# Altium schematic symbol library WCAP-ASNP.SchLib: 55 symbols (part 1 of 2)
Pins are listed as number, name and electrical type; pins without a type are passive.

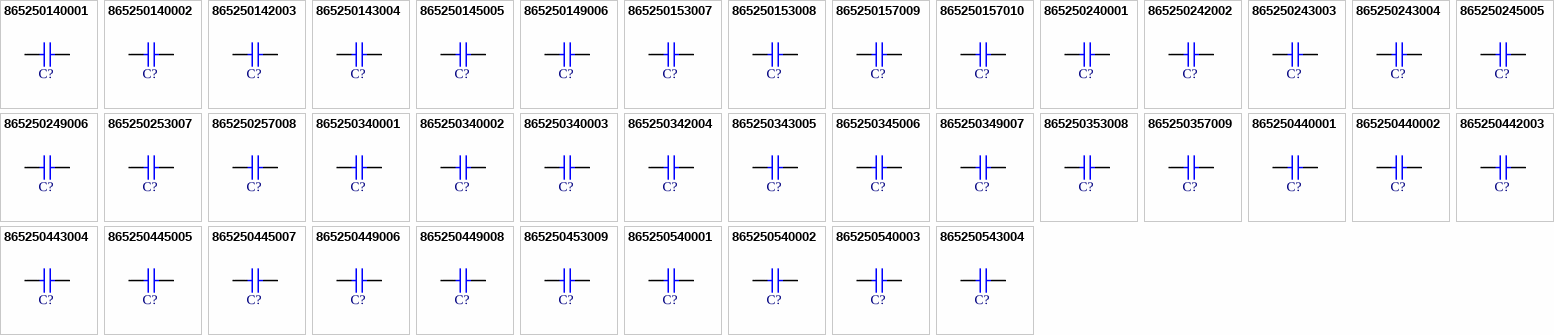
[diagram p0: symbols 865250140001 to 865250543004]

## 865250140001
designator C?, comment 10µF  (value not drawn)
WCAP-ASNP Aluminum Electrolytic Capacitor, V-Chip, SMT, D4 x H5.5mm, 10µF, 6.3V; Manufacturer Part Number: 865250140001; Manufacturer: Wurth Elektronik; Capacitance Tolerance: +/-20%; Dissipation Factor: 24%; Endurance: 2000h; Leakage Current: 10µA; Ripple Current: 15mA; Technical Reference: ASBB055100M6R3DVCTAB000; Category: Aluminum Electrolytic Capacitors; Match Code: WCAP-ASNP; ComponentLink1Description: Website Link; ComponentLink1URL: https://www.we-online.com/redexpert/article/865250140001?ad; ComponentLink2Description: Datasheet Link; ComponentLink2URL: https://www.we-online.com/redexpert/spec/865250140001?ad; Mount: Surface Mount; Operating Temperature Max: 85°C; Operating Temperature Min: -40°C; Packaging: Tape and Reel; Case/Size Code: D4 x H5.5mm; Height: 5.5mm; Diameter: 4mm; Capacitance: 10µF; Rated Voltage (DC): 6.3V
footprint WCAP-ASNP_D4H5.5
simulation model 865250140001_10uF
pins: 1, 2

## 865250140002
designator C?, comment 22µF  (value not drawn)
WCAP-ASNP Aluminum Electrolytic Capacitor, V-Chip, SMT, D4 x H5.5mm, 22µF, 6.3V; Manufacturer Part Number: 865250140002; Manufacturer: Wurth Elektronik; Capacitance Tolerance: +/-20%; Dissipation Factor: 24%; Endurance: 2000h; Leakage Current: 10µA; Ripple Current: 28mA; Technical Reference: ASBB055220M6R3DVCTAB000; Category: Aluminum Electrolytic Capacitors; Match Code: WCAP-ASNP; ComponentLink1Description: Website Link; ComponentLink1URL: https://www.we-online.com/redexpert/article/865250140002?ad; ComponentLink2Description: Datasheet Link; ComponentLink2URL: https://www.we-online.com/redexpert/spec/865250140002?ad; Mount: Surface Mount; Operating Temperature Max: 85°C; Operating Temperature Min: -40°C; Packaging: Tape and Reel; Case/Size Code: D4 x H5.5mm; Height: 5.5mm; Diameter: 4mm; Capacitance: 22µF; Rated Voltage (DC): 6.3V
footprint WCAP-ASNP_D4H5.5
simulation model 865250140002_22uF
pins: 1, 2

## 865250142003
designator C?, comment 33µF  (value not drawn)
WCAP-ASNP Aluminum Electrolytic Capacitor, V-Chip, SMT, D5 x H5.5mm, 33µF, 6.3V; Manufacturer Part Number: 865250142003; Manufacturer: Wurth Elektronik; Capacitance Tolerance: +/-20%; Dissipation Factor: 24%; Endurance: 2000h; Leakage Current: 10.395µA; Ripple Current: 37mA; Technical Reference: ASBC055330M6R3DVCTBB000; Category: Aluminum Electrolytic Capacitors; Match Code: WCAP-ASNP; ComponentLink1Description: Website Link; ComponentLink1URL: https://www.we-online.com/redexpert/article/865250142003?ad; ComponentLink2Description: Datasheet Link; ComponentLink2URL: https://www.we-online.com/redexpert/spec/865250142003?ad; Mount: Surface Mount; Operating Temperature Max: 85°C; Operating Temperature Min: -40°C; Packaging: Tape and Reel; Case/Size Code: D5 x H5.5mm; Height: 5.5mm; Diameter: 5mm; Capacitance: 33µF; Rated Voltage (DC): 6.3V
footprint WCAP-ASNP_D5H5.5
simulation model 865250142003_33uF
pins: 1, 2

## 865250143004
designator C?, comment 47µF  (value not drawn)
WCAP-ASNP Aluminum Electrolytic Capacitor, V-Chip, SMT, D6.3 x H5.5mm, 47µF, 6.3V; Manufacturer Part Number: 865250143004; Manufacturer: Wurth Elektronik; Capacitance Tolerance: +/-20%; Dissipation Factor: 24%; Endurance: 2000h; Leakage Current: 14.805µA; Ripple Current: 45mA; Technical Reference: ASBD055470M6R3DVCTBB000; Category: Aluminum Electrolytic Capacitors; Match Code: WCAP-ASNP; ComponentLink1Description: Website Link; ComponentLink1URL: https://www.we-online.com/redexpert/article/865250143004?ad; ComponentLink2Description: Datasheet Link; ComponentLink2URL: https://www.we-online.com/redexpert/spec/865250143004?ad; Mount: Surface Mount; Operating Temperature Max: 85°C; Operating Temperature Min: -40°C; Packaging: Tape and Reel; Case/Size Code: D6.3 x H5.5mm; Height: 5.5mm; Diameter: 6.3mm; Capacitance: 47µF; Rated Voltage (DC): 6.3V
footprint WCAP-ASNP_D6.3H5.5
simulation model 865250143004_47uF
pins: 1, 2

## 865250145005
designator C?, comment 100µF  (value not drawn)
WCAP-ASNP Aluminum Electrolytic Capacitor, V-Chip, SMT, D6.3 x H7.7mm, 100µF, 6.3V; Manufacturer Part Number: 865250145005; Manufacturer: Wurth Elektronik; Capacitance Tolerance: +/-20%; Dissipation Factor: 24%; Endurance: 2000h; Leakage Current: 31.5µA; Ripple Current: 65mA; Technical Reference: ASBD077101M6R3DVCTCB000; Category: Aluminum Electrolytic Capacitors; Match Code: WCAP-ASNP; ComponentLink1Description: Website Link; ComponentLink1URL: https://www.we-online.com/redexpert/article/865250145005?ad; ComponentLink2Description: Datasheet Link; ComponentLink2URL: https://www.we-online.com/redexpert/spec/865250145005?ad; Mount: Surface Mount; Operating Temperature Max: 85°C; Operating Temperature Min: -40°C; Packaging: Tape and Reel; Case/Size Code: D6.3 x H7.7mm; Height: 7.7mm; Diameter: 6.3mm; Capacitance: 100µF; Rated Voltage (DC): 6.3V
footprint WCAP-ASNP_D6.3H7.7
simulation model 865250145005_100uF
pins: 1, 2

## 865250149006
designator C?, comment 100µF  (value not drawn)
WCAP-ASNP Aluminum Electrolytic Capacitor, V-Chip, SMT, D8 x H6.5mm, 100µF, 6.3V; Manufacturer Part Number: 865250149006; Manufacturer: Wurth Elektronik; Capacitance Tolerance: +/-20%; Dissipation Factor: 24%; Endurance: 2000h; Leakage Current: 31.5µA; Ripple Current: 70mA; Technical Reference: ASBE065101M6R3DVCTBB000; Category: Aluminum Electrolytic Capacitors; Match Code: WCAP-ASNP; ComponentLink1Description: Website Link; ComponentLink1URL: https://www.we-online.com/redexpert/article/865250149006?ad; ComponentLink2Description: Datasheet Link; ComponentLink2URL: https://www.we-online.com/redexpert/spec/865250149006?ad; Mount: Surface Mount; Operating Temperature Max: 85°C; Operating Temperature Min: -40°C; Packaging: Tape and Reel; Case/Size Code: D8 x H6.5mm; Height: 6.5mm; Diameter: 8mm; Capacitance: 100µF; Rated Voltage (DC): 6.3V
footprint WCAP-ASNP_D8H6.5
simulation model 865250149006_100uF
pins: 1, 2

## 865250153007
designator C?, comment 220µF  (value not drawn)
WCAP-ASNP Aluminum Electrolytic Capacitor, V-Chip, SMT, D8 x H10.5mm, 220µF, 6.3V; Manufacturer Part Number: 865250153007; Manufacturer: Wurth Elektronik; Capacitance Tolerance: +/-20%; Dissipation Factor: 24%; Endurance: 2000h; Leakage Current: 69.3µA; Ripple Current: 120mA; Technical Reference: ASBE105221M6R3DVCTEB000; Category: Aluminum Electrolytic Capacitors; Match Code: WCAP-ASNP; ComponentLink1Description: Website Link; ComponentLink1URL: https://www.we-online.com/redexpert/article/865250153007?ad; ComponentLink2Description: Datasheet Link; ComponentLink2URL: https://www.we-online.com/redexpert/spec/865250153007?ad; Mount: Surface Mount; Operating Temperature Max: 85°C; Operating Temperature Min: -40°C; Packaging: Tape and Reel; Case/Size Code: D8 x H10.5mm; Height: 10.5mm; Diameter: 8mm; Capacitance: 220µF; Rated Voltage (DC): 6.3V
footprint WCAP-ASNP_D8H10.5
simulation model 865250153007_220uF
pins: 1, 2

## 865250153008
designator C?, comment 330µF  (value not drawn)
WCAP-ASNP Aluminum Electrolytic Capacitor, V-Chip, SMT, D8 x H10.5mm, 330µF, 6.3V; Manufacturer Part Number: 865250153008; Manufacturer: Wurth Elektronik; Capacitance Tolerance: +/-20%; Dissipation Factor: 24%; Endurance: 2000h; Leakage Current: 103.95µA; Ripple Current: 160mA; Technical Reference: ASBE105331M6R3DVCTEB000; Category: Aluminum Electrolytic Capacitors; Match Code: WCAP-ASNP; ComponentLink1Description: Website Link; ComponentLink1URL: https://www.we-online.com/redexpert/article/865250153008?ad; ComponentLink2Description: Datasheet Link; ComponentLink2URL: https://www.we-online.com/redexpert/spec/865250153008?ad; Mount: Surface Mount; Operating Temperature Max: 85°C; Operating Temperature Min: -40°C; Packaging: Tape and Reel; Case/Size Code: D8 x H10.5mm; Height: 10.5mm; Diameter: 8mm; Capacitance: 330µF; Rated Voltage (DC): 6.3V
footprint WCAP-ASNP_D8H10.5
simulation model 865250153008_330uF
pins: 1, 2

## 865250157009
designator C?, comment 470µF  (value not drawn)
WCAP-ASNP Aluminum Electrolytic Capacitor, V-Chip, SMT, D10 x H10.5mm, 470µF, 6.3V; Manufacturer Part Number: 865250157009; Manufacturer: Wurth Elektronik; Capacitance Tolerance: +/-20%; Dissipation Factor: 24%; Endurance: 2000h; Leakage Current: 148.05µA; Ripple Current: 190mA; Technical Reference: ASBF105471M6R3DVCTEB000; Category: Aluminum Electrolytic Capacitors; Match Code: WCAP-ASNP; ComponentLink1Description: Website Link; ComponentLink1URL: https://www.we-online.com/redexpert/article/865250157009?ad; ComponentLink2Description: Datasheet Link; ComponentLink2URL: https://www.we-online.com/redexpert/spec/865250157009?ad; Mount: Surface Mount; Operating Temperature Max: 85°C; Operating Temperature Min: -40°C; Packaging: Tape and Reel; Case/Size Code: D10 x H10.5mm; Height: 10.5mm; Diameter: 10mm; Capacitance: 470µF; Rated Voltage (DC): 6.3V
footprint WCAP-ASNP_D10H10.5
simulation model 865250157009_470uF
pins: 1, 2

## 865250157010
designator C?, comment 560µF  (value not drawn)
WCAP-ASNP Aluminum Electrolytic Capacitor, V-Chip, SMT, D10 x H10.5mm, 560µF, 6.3V; Manufacturer Part Number: 865250157010; Manufacturer: Wurth Elektronik; Capacitance Tolerance: +/-20%; Dissipation Factor: 24%; Endurance: 2000h; Leakage Current: 176.4µA; Ripple Current: 220mA; Technical Reference: ASBF105561M6R3DVCTEB000; Category: Aluminum Electrolytic Capacitors; Match Code: WCAP-ASNP; ComponentLink1Description: Website Link; ComponentLink1URL: https://www.we-online.com/redexpert/article/865250157010?ad; ComponentLink2Description: Datasheet Link; ComponentLink2URL: https://www.we-online.com/redexpert/spec/865250157010?ad; Mount: Surface Mount; Operating Temperature Max: 85°C; Operating Temperature Min: -40°C; Packaging: Tape and Reel; Case/Size Code: D10 x H10.5mm; Height: 10.5mm; Diameter: 10mm; Capacitance: 560µF; Rated Voltage (DC): 6.3V
footprint WCAP-ASNP_D10H10.5
simulation model 865250157010_560uF
pins: 1, 2

## 865250240001
designator C?, comment 10µF  (value not drawn)
WCAP-ASNP Aluminum Electrolytic Capacitor, V-Chip, SMT, D4 x H5.5mm, 10µF, 10V; Manufacturer Part Number: 865250240001; Manufacturer: Wurth Elektronik; Capacitance Tolerance: +/-20%; Dissipation Factor: 20%; Endurance: 2000h; Leakage Current: 10µA; Ripple Current: 17mA; Technical Reference: ASBB055100M010DVCTAB000; Category: Aluminum Electrolytic Capacitors; Match Code: WCAP-ASNP; ComponentLink1Description: Website Link; ComponentLink1URL: https://www.we-online.com/redexpert/article/865250240001?ad; ComponentLink2Description: Datasheet Link; ComponentLink2URL: https://www.we-online.com/redexpert/spec/865250240001?ad; Mount: Surface Mount; Operating Temperature Max: 85°C; Operating Temperature Min: -40°C; Packaging: Tape and Reel; Case/Size Code: D4 x H5.5mm; Height: 5.5mm; Diameter: 4mm; Capacitance: 10µF; Rated Voltage (DC): 10V
footprint WCAP-ASNP_D4H5.5
simulation model 865250240001_10uF
pins: 1, 2

## 865250242002
designator C?, comment 22µF  (value not drawn)
WCAP-ASNP Aluminum Electrolytic Capacitor, V-Chip, SMT, D5 x H5.5mm, 22µF, 10V; Manufacturer Part Number: 865250242002; Manufacturer: Wurth Elektronik; Capacitance Tolerance: +/-20%; Dissipation Factor: 20%; Endurance: 2000h; Leakage Current: 11µA; Ripple Current: 33mA; Technical Reference: ASBC055220M010DVCTBB000; Category: Aluminum Electrolytic Capacitors; Match Code: WCAP-ASNP; ComponentLink1Description: Website Link; ComponentLink1URL: https://www.we-online.com/redexpert/article/865250242002?ad; ComponentLink2Description: Datasheet Link; ComponentLink2URL: https://www.we-online.com/redexpert/spec/865250242002?ad; Mount: Surface Mount; Operating Temperature Max: 85°C; Operating Temperature Min: -40°C; Packaging: Tape and Reel; Case/Size Code: D5 x H5.5mm; Height: 5.5mm; Diameter: 5mm; Capacitance: 22µF; Rated Voltage (DC): 10V
footprint WCAP-ASNP_D5H5.5
simulation model 865250242002_22uF
pins: 1, 2

## 865250243003
designator C?, comment 33µF  (value not drawn)
WCAP-ASNP Aluminum Electrolytic Capacitor, V-Chip, SMT, D6.3 x H5.5mm, 33µF, 10V; Manufacturer Part Number: 865250243003; Manufacturer: Wurth Elektronik; Capacitance Tolerance: +/-20%; Dissipation Factor: 20%; Endurance: 2000h; Leakage Current: 16.5µA; Ripple Current: 41mA; Technical Reference: ASBD055330M010DVCTBB000; Category: Aluminum Electrolytic Capacitors; Match Code: WCAP-ASNP; ComponentLink1Description: Website Link; ComponentLink1URL: https://www.we-online.com/redexpert/article/865250243003?ad; ComponentLink2Description: Datasheet Link; ComponentLink2URL: https://www.we-online.com/redexpert/spec/865250243003?ad; Mount: Surface Mount; Operating Temperature Max: 85°C; Operating Temperature Min: -40°C; Packaging: Tape and Reel; Case/Size Code: D6.3 x H5.5mm; Height: 5.5mm; Diameter: 6.3mm; Capacitance: 33µF; Rated Voltage (DC): 10V
footprint WCAP-ASNP_D6.3H5.5
simulation model 865250243003_33uF
pins: 1, 2

## 865250243004
designator C?, comment 47µF  (value not drawn)
WCAP-ASNP Aluminum Electrolytic Capacitor, V-Chip, SMT, D6.3 x H5.5mm, 47µF, 10V; Manufacturer Part Number: 865250243004; Manufacturer: Wurth Elektronik; Capacitance Tolerance: +/-20%; Dissipation Factor: 20%; Endurance: 2000h; Leakage Current: 23.5µA; Ripple Current: 50mA; Technical Reference: ASBD055470M010DVCTBB000; Category: Aluminum Electrolytic Capacitors; Match Code: WCAP-ASNP; ComponentLink1Description: Website Link; ComponentLink1URL: https://www.we-online.com/redexpert/article/865250243004?ad; ComponentLink2Description: Datasheet Link; ComponentLink2URL: https://www.we-online.com/redexpert/spec/865250243004?ad; Mount: Surface Mount; Operating Temperature Max: 85°C; Operating Temperature Min: -40°C; Packaging: Tape and Reel; Case/Size Code: D6.3 x H5.5mm; Height: 5.5mm; Diameter: 6.3mm; Capacitance: 47µF; Rated Voltage (DC): 10V
footprint WCAP-ASNP_D6.3H5.5
simulation model 865250243004_47uF
pins: 1, 2

## 865250245005
designator C?, comment 100µF  (value not drawn)
WCAP-ASNP Aluminum Electrolytic Capacitor, V-Chip, SMT, D6.3 x H7.7mm, 100µF, 10V; Manufacturer Part Number: 865250245005; Manufacturer: Wurth Elektronik; Capacitance Tolerance: +/-20%; Dissipation Factor: 20%; Endurance: 2000h; Leakage Current: 50µA; Ripple Current: 75mA; Technical Reference: ASBD077101M010DVCTCB000; Category: Aluminum Electrolytic Capacitors; Match Code: WCAP-ASNP; ComponentLink1Description: Website Link; ComponentLink1URL: https://www.we-online.com/redexpert/article/865250245005?ad; ComponentLink2Description: Datasheet Link; ComponentLink2URL: https://www.we-online.com/redexpert/spec/865250245005?ad; Mount: Surface Mount; Operating Temperature Max: 85°C; Operating Temperature Min: -40°C; Packaging: Tape and Reel; Case/Size Code: D6.3 x H7.7mm; Height: 7.7mm; Diameter: 6.3mm; Capacitance: 100µF; Rated Voltage (DC): 10V
footprint WCAP-ASNP_D6.3H7.7
simulation model 865250245005_100uF
pins: 1, 2

## 865250249006
designator C?, comment 100µF  (value not drawn)
WCAP-ASNP Aluminum Electrolytic Capacitor, V-Chip, SMT, D8 x H6.5mm, 100µF, 10V; Manufacturer Part Number: 865250249006; Manufacturer: Wurth Elektronik; Capacitance Tolerance: +/-20%; Dissipation Factor: 20%; Endurance: 2000h; Leakage Current: 50µA; Ripple Current: 80mA; Technical Reference: ASBE065101M010DVCTBB000; Category: Aluminum Electrolytic Capacitors; Match Code: WCAP-ASNP; ComponentLink1Description: Website Link; ComponentLink1URL: https://www.we-online.com/redexpert/article/865250249006?ad; ComponentLink2Description: Datasheet Link; ComponentLink2URL: https://www.we-online.com/redexpert/spec/865250249006?ad; Mount: Surface Mount; Operating Temperature Max: 85°C; Operating Temperature Min: -40°C; Packaging: Tape and Reel; Case/Size Code: D8 x H6.5mm; Height: 6.5mm; Diameter: 8mm; Capacitance: 100µF; Rated Voltage (DC): 10V
footprint WCAP-ASNP_D8H6.5
simulation model 865250249006_100uF
pins: 1, 2

## 865250253007
designator C?, comment 220µF  (value not drawn)
WCAP-ASNP Aluminum Electrolytic Capacitor, V-Chip, SMT, D8 x H10.5mm, 220µF, 10V; Manufacturer Part Number: 865250253007; Manufacturer: Wurth Elektronik; Capacitance Tolerance: +/-20%; Dissipation Factor: 20%; Endurance: 2000h; Leakage Current: 110µA; Ripple Current: 150mA; Technical Reference: ASBE105221M010DVCTEB000; Category: Aluminum Electrolytic Capacitors; Match Code: WCAP-ASNP; ComponentLink1Description: Website Link; ComponentLink1URL: https://www.we-online.com/redexpert/article/865250253007?ad; ComponentLink2Description: Datasheet Link; ComponentLink2URL: https://www.we-online.com/redexpert/spec/865250253007?ad; Mount: Surface Mount; Operating Temperature Max: 85°C; Operating Temperature Min: -40°C; Packaging: Tape and Reel; Case/Size Code: D8 x H10.5mm; Height: 10.5mm; Diameter: 8mm; Capacitance: 220µF; Rated Voltage (DC): 10V
footprint WCAP-ASNP_D8H10.5
simulation model 865250253007_220uF
pins: 1, 2

## 865250257008
designator C?, comment 330µF  (value not drawn)
WCAP-ASNP Aluminum Electrolytic Capacitor, V-Chip, SMT, D10 x H10.5mm, 330µF, 10V; Manufacturer Part Number: 865250257008; Manufacturer: Wurth Elektronik; Capacitance Tolerance: +/-20%; Dissipation Factor: 20%; Endurance: 2000h; Leakage Current: 165µA; Ripple Current: 180mA; Technical Reference: ASBF105331M010DVCTEB000; Category: Aluminum Electrolytic Capacitors; Match Code: WCAP-ASNP; ComponentLink1Description: Website Link; ComponentLink1URL: https://www.we-online.com/redexpert/article/865250257008?ad; ComponentLink2Description: Datasheet Link; ComponentLink2URL: https://www.we-online.com/redexpert/spec/865250257008?ad; Mount: Surface Mount; Operating Temperature Max: 85°C; Operating Temperature Min: -40°C; Packaging: Tape and Reel; Case/Size Code: D10 x H10.5mm; Height: 10.5mm; Diameter: 10mm; Capacitance: 330µF; Rated Voltage (DC): 10V
footprint WCAP-ASNP_D10H10.5
simulation model 865250257008_330uF
pins: 1, 2

## 865250340001
designator C?, comment 3.3µF  (value not drawn)
WCAP-ASNP Aluminum Electrolytic Capacitor, V-Chip, SMT, D4 x H5.5mm, 3.3µF, 16V; Manufacturer Part Number: 865250340001; Manufacturer: Wurth Elektronik; Capacitance Tolerance: +/-20%; Dissipation Factor: 17%; Endurance: 2000h; Leakage Current: 10µA; Ripple Current: 12mA; Technical Reference: ASBB0553R3M016DVCTAB000; Category: Aluminum Electrolytic Capacitors; Match Code: WCAP-ASNP; ComponentLink1Description: Website Link; ComponentLink1URL: https://www.we-online.com/redexpert/article/865250340001?ad; ComponentLink2Description: Datasheet Link; ComponentLink2URL: https://www.we-online.com/redexpert/spec/865250340001?ad; Mount: Surface Mount; Operating Temperature Max: 85°C; Operating Temperature Min: -40°C; Packaging: Tape and Reel; Case/Size Code: D4 x H5.5mm; Height: 5.5mm; Diameter: 4mm; Capacitance: 3.3µF; Rated Voltage (DC): 16V
footprint WCAP-ASNP_D4H5.5
simulation model 865250340001_3.3uF
pins: 1, 2

## 865250340002
designator C?, comment 4.7µF  (value not drawn)
WCAP-ASNP Aluminum Electrolytic Capacitor, V-Chip, SMT, D4 x H5.5mm, 4.7µF, 16V; Manufacturer Part Number: 865250340002; Manufacturer: Wurth Elektronik; Capacitance Tolerance: +/-20%; Dissipation Factor: 17%; Endurance: 2000h; Leakage Current: 10µA; Ripple Current: 12mA; Technical Reference: ASBB0554R7M016DVCTAB000; Category: Aluminum Electrolytic Capacitors; Match Code: WCAP-ASNP; ComponentLink1Description: Website Link; ComponentLink1URL: https://www.we-online.com/redexpert/article/865250340002?ad; ComponentLink2Description: Datasheet Link; ComponentLink2URL: https://www.we-online.com/redexpert/spec/865250340002?ad; Mount: Surface Mount; Operating Temperature Max: 85°C; Operating Temperature Min: -40°C; Packaging: Tape and Reel; Case/Size Code: D4 x H5.5mm; Height: 5.5mm; Diameter: 4mm; Capacitance: 4.7µF; Rated Voltage (DC): 16V
footprint WCAP-ASNP_D4H5.5
simulation model 865250340002_4.7uF
pins: 1, 2

## 865250340003
designator C?, comment 10µF  (value not drawn)
WCAP-ASNP Aluminum Electrolytic Capacitor, V-Chip, SMT, D4 x H5.5mm, 10µF, 16V; Manufacturer Part Number: 865250340003; Manufacturer: Wurth Elektronik; Capacitance Tolerance: +/-20%; Dissipation Factor: 17%; Endurance: 2000h; Leakage Current: 10µA; Ripple Current: 23mA; Technical Reference: ASBB055100M016DVCTAB000; Category: Aluminum Electrolytic Capacitors; Match Code: WCAP-ASNP; ComponentLink1Description: Website Link; ComponentLink1URL: https://www.we-online.com/redexpert/article/865250340003?ad; ComponentLink2Description: Datasheet Link; ComponentLink2URL: https://www.we-online.com/redexpert/spec/865250340003?ad; Mount: Surface Mount; Operating Temperature Max: 85°C; Operating Temperature Min: -40°C; Packaging: Tape and Reel; Case/Size Code: D4 x H5.5mm; Height: 5.5mm; Diameter: 4mm; Capacitance: 10µF; Rated Voltage (DC): 16V
footprint WCAP-ASNP_D4H5.5
simulation model 865250340003_10uF
pins: 1, 2

## 865250342004
designator C?, comment 22µF  (value not drawn)
WCAP-ASNP Aluminum Electrolytic Capacitor, V-Chip, SMT, D5 x H5.5mm, 22µF, 16V; Manufacturer Part Number: 865250342004; Manufacturer: Wurth Elektronik; Capacitance Tolerance: +/-20%; Dissipation Factor: 17%; Endurance: 2000h; Leakage Current: 17.6µA; Ripple Current: 37mA; Technical Reference: ASBC055220M016DVCTBB000; Category: Aluminum Electrolytic Capacitors; Match Code: WCAP-ASNP; ComponentLink1Description: Website Link; ComponentLink1URL: https://www.we-online.com/redexpert/article/865250342004?ad; ComponentLink2Description: Datasheet Link; ComponentLink2URL: https://www.we-online.com/redexpert/spec/865250342004?ad; Mount: Surface Mount; Operating Temperature Max: 85°C; Operating Temperature Min: -40°C; Packaging: Tape and Reel; Case/Size Code: D5 x H5.5mm; Height: 5.5mm; Diameter: 5mm; Capacitance: 22µF; Rated Voltage (DC): 16V
footprint WCAP-ASNP_D5H5.5
simulation model 865250342004_22uF
pins: 1, 2

## 865250343005
designator C?, comment 33µF  (value not drawn)
WCAP-ASNP Aluminum Electrolytic Capacitor, V-Chip, SMT, D6.3 x H5.5mm, 33µF, 16V; Manufacturer Part Number: 865250343005; Manufacturer: Wurth Elektronik; Capacitance Tolerance: +/-20%; Dissipation Factor: 17%; Endurance: 2000h; Leakage Current: 26.4µA; Ripple Current: 49mA; Technical Reference: ASBD055330M016DVCTBB000; Category: Aluminum Electrolytic Capacitors; Match Code: WCAP-ASNP; ComponentLink1Description: Website Link; ComponentLink1URL: https://www.we-online.com/redexpert/article/865250343005?ad; ComponentLink2Description: Datasheet Link; ComponentLink2URL: https://www.we-online.com/redexpert/spec/865250343005?ad; Mount: Surface Mount; Operating Temperature Max: 85°C; Operating Temperature Min: -40°C; Packaging: Tape and Reel; Case/Size Code: D6.3 x H5.5mm; Height: 5.5mm; Diameter: 6.3mm; Capacitance: 33µF; Rated Voltage (DC): 16V
footprint WCAP-ASNP_D6.3H5.5
simulation model 865250343005_33uF
pins: 1, 2

## 865250345006
designator C?, comment 47µF  (value not drawn)
WCAP-ASNP Aluminum Electrolytic Capacitor, V-Chip, SMT, D6.3 x H7.7mm, 47µF, 16V; Manufacturer Part Number: 865250345006; Manufacturer: Wurth Elektronik; Capacitance Tolerance: +/-20%; Dissipation Factor: 17%; Endurance: 2000h; Leakage Current: 37.6µA; Ripple Current: 51mA; Technical Reference: ASBD077470M016DVCTCB000; Category: Aluminum Electrolytic Capacitors; Match Code: WCAP-ASNP; ComponentLink1Description: Website Link; ComponentLink1URL: https://www.we-online.com/redexpert/article/865250345006?ad; ComponentLink2Description: Datasheet Link; ComponentLink2URL: https://www.we-online.com/redexpert/spec/865250345006?ad; Mount: Surface Mount; Operating Temperature Max: 85°C; Operating Temperature Min: -40°C; Packaging: Tape and Reel; Case/Size Code: D6.3 x H7.7mm; Height: 7.7mm; Diameter: 6.3mm; Capacitance: 47µF; Rated Voltage (DC): 16V
footprint WCAP-ASNP_D6.3H7.7
simulation model 865250345006_47uF
pins: 1, 2

## 865250349007
designator C?, comment 47µF  (value not drawn)
WCAP-ASNP Aluminum Electrolytic Capacitor, V-Chip, SMT, D8 x H6.5mm, 47µF, 16V; Manufacturer Part Number: 865250349007; Manufacturer: Wurth Elektronik; Capacitance Tolerance: +/-20%; Dissipation Factor: 17%; Endurance: 2000h; Leakage Current: 37.6µA; Ripple Current: 55mA; Technical Reference: ASBE065470M016DVCTBB000; Category: Aluminum Electrolytic Capacitors; Match Code: WCAP-ASNP; ComponentLink1Description: Website Link; ComponentLink1URL: https://www.we-online.com/redexpert/article/865250349007?ad; ComponentLink2Description: Datasheet Link; ComponentLink2URL: https://www.we-online.com/redexpert/spec/865250349007?ad; Mount: Surface Mount; Operating Temperature Max: 85°C; Operating Temperature Min: -40°C; Packaging: Tape and Reel; Case/Size Code: D8 x H6.5mm; Height: 6.5mm; Diameter: 8mm; Capacitance: 47µF; Rated Voltage (DC): 16V
footprint WCAP-ASNP_D8H6.5
simulation model 865250349007_47uF
pins: 1, 2

## 865250353008
designator C?, comment 100µF  (value not drawn)
WCAP-ASNP Aluminum Electrolytic Capacitor, V-Chip, SMT, D8 x H10.5mm, 100µF, 16V; Manufacturer Part Number: 865250353008; Manufacturer: Wurth Elektronik; Capacitance Tolerance: +/-20%; Dissipation Factor: 17%; Endurance: 2000h; Leakage Current: 80µA; Ripple Current: 100mA; Technical Reference: ASBE105101M016DVCTEB000; Category: Aluminum Electrolytic Capacitors; Match Code: WCAP-ASNP; ComponentLink1Description: Website Link; ComponentLink1URL: https://www.we-online.com/redexpert/article/865250353008?ad; ComponentLink2Description: Datasheet Link; ComponentLink2URL: https://www.we-online.com/redexpert/spec/865250353008?ad; Mount: Surface Mount; Operating Temperature Max: 85°C; Operating Temperature Min: -40°C; Packaging: Tape and Reel; Case/Size Code: D8 x H10.5mm; Height: 10.5mm; Diameter: 8mm; Capacitance: 100µF; Rated Voltage (DC): 16V
footprint WCAP-ASNP_D8H10.5
simulation model 865250353008_100uF
pins: 1, 2

## 865250357009
designator C?, comment 220µF  (value not drawn)
WCAP-ASNP Aluminum Electrolytic Capacitor, V-Chip, SMT, D10 x H10.5mm, 220µF, 16V; Manufacturer Part Number: 865250357009; Manufacturer: Wurth Elektronik; Capacitance Tolerance: +/-20%; Dissipation Factor: 17%; Endurance: 2000h; Leakage Current: 176µA; Ripple Current: 170mA; Technical Reference: ASBF105221M016DVCTEB000; Category: Aluminum Electrolytic Capacitors; Match Code: WCAP-ASNP; ComponentLink1Description: Website Link; ComponentLink1URL: https://www.we-online.com/redexpert/article/865250357009?ad; ComponentLink2Description: Datasheet Link; ComponentLink2URL: https://www.we-online.com/redexpert/spec/865250357009?ad; Mount: Surface Mount; Operating Temperature Max: 85°C; Operating Temperature Min: -40°C; Packaging: Tape and Reel; Case/Size Code: D10 x H10.5mm; Height: 10.5mm; Diameter: 10mm; Capacitance: 220µF; Rated Voltage (DC): 16V
footprint WCAP-ASNP_D10H10.5
simulation model 865250357009_220uF
pins: 1, 2

## 865250440001
designator C?, comment 3.3µF  (value not drawn)
WCAP-ASNP Aluminum Electrolytic Capacitor, V-Chip, SMT, D4 x H5.5mm, 3.3µF, 25V; Manufacturer Part Number: 865250440001; Manufacturer: Wurth Elektronik; Capacitance Tolerance: +/-20%; Dissipation Factor: 17%; Endurance: 2000h; Leakage Current: 10µA; Ripple Current: 12mA; Technical Reference: ASBB0553R3M025DVCTAB000; Category: Aluminum Electrolytic Capacitors; Match Code: WCAP-ASNP; ComponentLink1Description: Website Link; ComponentLink1URL: https://www.we-online.com/redexpert/article/865250440001?ad; ComponentLink2Description: Datasheet Link; ComponentLink2URL: https://www.we-online.com/redexpert/spec/865250440001?ad; Mount: Surface Mount; Operating Temperature Max: 85°C; Operating Temperature Min: -40°C; Packaging: Tape and Reel; Case/Size Code: D4 x H5.5mm; Height: 5.5mm; Diameter: 4mm; Capacitance: 3.3µF; Rated Voltage (DC): 25V
footprint WCAP-ASNP_D4H5.5
simulation model 865250440001_3.3uF
pins: 1, 2

## 865250440002
designator C?, comment 4.7µF  (value not drawn)
WCAP-ASNP Aluminum Electrolytic Capacitor, V-Chip, SMT, D4 x H5.5mm, 4.7µF, 25V; Manufacturer Part Number: 865250440002; Manufacturer: Wurth Elektronik; Capacitance Tolerance: +/-20%; Dissipation Factor: 17%; Endurance: 2000h; Leakage Current: 10µA; Ripple Current: 16mA; Technical Reference: ASBB0554R7M025DVCTAB000; Category: Aluminum Electrolytic Capacitors; Match Code: WCAP-ASNP; ComponentLink1Description: Website Link; ComponentLink1URL: https://www.we-online.com/redexpert/article/865250440002?ad; ComponentLink2Description: Datasheet Link; ComponentLink2URL: https://www.we-online.com/redexpert/spec/865250440002?ad; Mount: Surface Mount; Operating Temperature Max: 85°C; Operating Temperature Min: -40°C; Packaging: Tape and Reel; Case/Size Code: D4 x H5.5mm; Height: 5.5mm; Diameter: 4mm; Capacitance: 4.7µF; Rated Voltage (DC): 25V
footprint WCAP-ASNP_D4H5.5
simulation model 865250440002_4.7uF
pins: 1, 2

## 865250442003
designator C?, comment 10µF  (value not drawn)
WCAP-ASNP Aluminum Electrolytic Capacitor, V-Chip, SMT, D5 x H5.5mm, 10µF, 25V; Manufacturer Part Number: 865250442003; Manufacturer: Wurth Elektronik; Capacitance Tolerance: +/-20%; Dissipation Factor: 17%; Endurance: 2000h; Leakage Current: 12.5µA; Ripple Current: 27mA; Technical Reference: ASBC055100M025DVCTBB000; Category: Aluminum Electrolytic Capacitors; Match Code: WCAP-ASNP; ComponentLink1Description: Website Link; ComponentLink1URL: https://www.we-online.com/redexpert/article/865250442003?ad; ComponentLink2Description: Datasheet Link; ComponentLink2URL: https://www.we-online.com/redexpert/spec/865250442003?ad; Mount: Surface Mount; Operating Temperature Max: 85°C; Operating Temperature Min: -40°C; Packaging: Tape and Reel; Case/Size Code: D5 x H5.5mm; Height: 5.5mm; Diameter: 5mm; Capacitance: 10µF; Rated Voltage (DC): 25V
footprint WCAP-ASNP_D5H5.5
simulation model 865250442003_10uF
pins: 1, 2

## 865250443004
designator C?, comment 22µF  (value not drawn)
WCAP-ASNP Aluminum Electrolytic Capacitor, V-Chip, SMT, D6.3 x H5.5mm, 22µF, 25V; Manufacturer Part Number: 865250443004; Manufacturer: Wurth Elektronik; Capacitance Tolerance: +/-20%; Dissipation Factor: 17%; Endurance: 2000h; Leakage Current: 27.5µA; Ripple Current: 40mA; Technical Reference: ASBD055220M025DVCTBB000; Category: Aluminum Electrolytic Capacitors; Match Code: WCAP-ASNP; ComponentLink1Description: Website Link; ComponentLink1URL: https://www.we-online.com/redexpert/article/865250443004?ad; ComponentLink2Description: Datasheet Link; ComponentLink2URL: https://www.we-online.com/redexpert/spec/865250443004?ad; Mount: Surface Mount; Operating Temperature Max: 85°C; Operating Temperature Min: -40°C; Packaging: Tape and Reel; Case/Size Code: D6.3 x H5.5mm; Height: 5.5mm; Diameter: 6.3mm; Capacitance: 22µF; Rated Voltage (DC): 25V
footprint WCAP-ASNP_D6.3H5.5
simulation model 865250443004_22uF
pins: 1, 2

## 865250445005
designator C?, comment 33µF  (value not drawn)
WCAP-ASNP Aluminum Electrolytic Capacitor, V-Chip, SMT, D6.3 x H7.7mm, 33µF, 25V; Manufacturer Part Number: 865250445005; Manufacturer: Wurth Elektronik; Capacitance Tolerance: +/-20%; Dissipation Factor: 17%; Endurance: 2000h; Leakage Current: 41.25µA; Ripple Current: 51mA; Technical Reference: ASBD077330M025DVCTCB000; Category: Aluminum Electrolytic Capacitors; Match Code: WCAP-ASNP; ComponentLink1Description: Website Link; ComponentLink1URL: https://www.we-online.com/redexpert/article/865250445005?ad; ComponentLink2Description: Datasheet Link; ComponentLink2URL: https://www.we-online.com/redexpert/spec/865250445005?ad; Mount: Surface Mount; Operating Temperature Max: 85°C; Operating Temperature Min: -40°C; Packaging: Tape and Reel; Case/Size Code: D6.3 x H7.7mm; Height: 7.7mm; Diameter: 6.3mm; Capacitance: 33µF; Rated Voltage (DC): 25V
footprint WCAP-ASNP_D6.3H7.7
simulation model 865250445005_33uF
pins: 1, 2

## 865250445007
designator C?, comment 47µF  (value not drawn)
WCAP-ASNP Aluminum Electrolytic Capacitor, V-Chip, SMT, D6.3 x H7.7mm, 47µF, 25V; Manufacturer Part Number: 865250445007; Manufacturer: Wurth Elektronik; Capacitance Tolerance: +/-20%; Dissipation Factor: 17%; Endurance: 2000h; Leakage Current: 58.75µA; Ripple Current: 56mA; Technical Reference: ASBD077470M025DVCTCB000; Category: Aluminum Electrolytic Capacitors; Match Code: WCAP-ASNP; ComponentLink1Description: Website Link; ComponentLink1URL: https://www.we-online.com/redexpert/article/865250445007?ad; ComponentLink2Description: Datasheet Link; ComponentLink2URL: https://www.we-online.com/redexpert/spec/865250445007?ad; Mount: Surface Mount; Operating Temperature Max: 85°C; Operating Temperature Min: -40°C; Packaging: Tape and Reel; Case/Size Code: D6.3 x H7.7mm; Height: 7.7mm; Diameter: 6.3mm; Capacitance: 47µF; Rated Voltage (DC): 25V
footprint WCAP-ASNP_D6.3H7.7
simulation model 865250445007_47uF
pins: 1, 2

## 865250449006
designator C?, comment 33µF  (value not drawn)
WCAP-ASNP Aluminum Electrolytic Capacitor, V-Chip, SMT, D8 x H6.5mm, 33µF, 25V; Manufacturer Part Number: 865250449006; Manufacturer: Wurth Elektronik; Capacitance Tolerance: +/-20%; Dissipation Factor: 17%; Endurance: 2000h; Leakage Current: 41.25µA; Ripple Current: 55mA; Technical Reference: ASBE065330M025DVCTBB000; Category: Aluminum Electrolytic Capacitors; Match Code: WCAP-ASNP; ComponentLink1Description: Website Link; ComponentLink1URL: https://www.we-online.com/redexpert/article/865250449006?ad; ComponentLink2Description: Datasheet Link; ComponentLink2URL: https://www.we-online.com/redexpert/spec/865250449006?ad; Mount: Surface Mount; Operating Temperature Max: 85°C; Operating Temperature Min: -40°C; Packaging: Tape and Reel; Case/Size Code: D8 x H6.5mm; Height: 6.5mm; Diameter: 8mm; Capacitance: 33µF; Rated Voltage (DC): 25V
footprint WCAP-ASNP_D8H6.5
simulation model 865250449006_33uF
pins: 1, 2

## 865250449008
designator C?, comment 47µF  (value not drawn)
WCAP-ASNP Aluminum Electrolytic Capacitor, V-Chip, SMT, D8 x H6.5mm, 47µF, 25V; Manufacturer Part Number: 865250449008; Manufacturer: Wurth Elektronik; Capacitance Tolerance: +/-20%; Dissipation Factor: 17%; Endurance: 2000h; Leakage Current: 58.75µA; Ripple Current: 60mA; Technical Reference: ASBE065470M025DVCTBB000; Category: Aluminum Electrolytic Capacitors; Match Code: WCAP-ASNP; ComponentLink1Description: Website Link; ComponentLink1URL: https://www.we-online.com/redexpert/article/865250449008?ad; ComponentLink2Description: Datasheet Link; ComponentLink2URL: https://www.we-online.com/redexpert/spec/865250449008?ad; Mount: Surface Mount; Operating Temperature Max: 85°C; Operating Temperature Min: -40°C; Packaging: Tape and Reel; Case/Size Code: D8 x H6.5mm; Height: 6.5mm; Diameter: 8mm; Capacitance: 47µF; Rated Voltage (DC): 25V
footprint WCAP-ASNP_D8H6.5
simulation model 865250449008_47uF
pins: 1, 2

## 865250453009
designator C?, comment 100µF  (value not drawn)
WCAP-ASNP Aluminum Electrolytic Capacitor, V-Chip, SMT, D8 x H10.5mm, 100µF, 25V; Manufacturer Part Number: 865250453009; Manufacturer: Wurth Elektronik; Capacitance Tolerance: +/-20%; Dissipation Factor: 17%; Endurance: 2000h; Leakage Current: 125µA; Ripple Current: 130mA; Technical Reference: ASBE105101M025DVCTEB000; Category: Aluminum Electrolytic Capacitors; Match Code: WCAP-ASNP; ComponentLink1Description: Website Link; ComponentLink1URL: https://www.we-online.com/redexpert/article/865250453009?ad; ComponentLink2Description: Datasheet Link; ComponentLink2URL: https://www.we-online.com/redexpert/spec/865250453009?ad; Mount: Surface Mount; Operating Temperature Max: 85°C; Operating Temperature Min: -40°C; Packaging: Tape and Reel; Case/Size Code: D8 x H10.5mm; Height: 10.5mm; Diameter: 8mm; Capacitance: 100µF; Rated Voltage (DC): 25V
footprint WCAP-ASNP_D8H10.5
simulation model 865250453009_100uF
pins: 1, 2

## 865250540001
designator C?, comment 2.2µF  (value not drawn)
WCAP-ASNP Aluminum Electrolytic Capacitor, V-Chip, SMT, D4 x H5.5mm, 2.2µF, 35V; Manufacturer Part Number: 865250540001; Manufacturer: Wurth Elektronik; Capacitance Tolerance: +/-20%; Dissipation Factor: 15%; Endurance: 2000h; Leakage Current: 10µA; Ripple Current: 8.4mA; Technical Reference: ASBB0552R2M035DVCTAB000; Category: Aluminum Electrolytic Capacitors; Match Code: WCAP-ASNP; ComponentLink1Description: Website Link; ComponentLink1URL: https://www.we-online.com/redexpert/article/865250540001?ad; ComponentLink2Description: Datasheet Link; ComponentLink2URL: https://www.we-online.com/redexpert/spec/865250540001?ad; Mount: Surface Mount; Operating Temperature Max: 85°C; Operating Temperature Min: -40°C; Packaging: Tape and Reel; Case/Size Code: D4 x H5.5mm; Height: 5.5mm; Diameter: 4mm; Capacitance: 2.2µF; Rated Voltage (DC): 35V
footprint WCAP-ASNP_D4H5.5
simulation model 865250540001_2.2uF
pins: 1, 2

## 865250540002
designator C?, comment 3.3µF  (value not drawn)
WCAP-ASNP Aluminum Electrolytic Capacitor, V-Chip, SMT, D4 x H5.5mm, 3.3µF, 35V; Manufacturer Part Number: 865250540002; Manufacturer: Wurth Elektronik; Capacitance Tolerance: +/-20%; Dissipation Factor: 15%; Endurance: 2000h; Leakage Current: 10µA; Ripple Current: 16mA; Technical Reference: ASBB0553R3M035DVCTAB000; Category: Aluminum Electrolytic Capacitors; Match Code: WCAP-ASNP; ComponentLink1Description: Website Link; ComponentLink1URL: https://www.we-online.com/redexpert/article/865250540002?ad; ComponentLink2Description: Datasheet Link; ComponentLink2URL: https://www.we-online.com/redexpert/spec/865250540002?ad; Mount: Surface Mount; Operating Temperature Max: 85°C; Operating Temperature Min: -40°C; Packaging: Tape and Reel; Case/Size Code: D4 x H5.5mm; Height: 5.5mm; Diameter: 4mm; Capacitance: 3.3µF; Rated Voltage (DC): 35V
footprint WCAP-ASNP_D4H5.5
simulation model 865250540002_3.3uF
pins: 1, 2

## 865250540003
designator C?, comment 4.7µF  (value not drawn)
WCAP-ASNP Aluminum Electrolytic Capacitor, V-Chip, SMT, D4 x H5.5mm, 4.7µF, 35V; Manufacturer Part Number: 865250540003; Manufacturer: Wurth Elektronik; Capacitance Tolerance: +/-20%; Dissipation Factor: 15%; Endurance: 2000h; Leakage Current: 10µA; Ripple Current: 18mA; Technical Reference: ASBB0554R7M035DVCTAB000; Category: Aluminum Electrolytic Capacitors; Match Code: WCAP-ASNP; ComponentLink1Description: Website Link; ComponentLink1URL: https://www.we-online.com/redexpert/article/865250540003?ad; ComponentLink2Description: Datasheet Link; ComponentLink2URL: https://www.we-online.com/redexpert/spec/865250540003?ad; Mount: Surface Mount; Operating Temperature Max: 85°C; Operating Temperature Min: -40°C; Packaging: Tape and Reel; Case/Size Code: D4 x H5.5mm; Height: 5.5mm; Diameter: 4mm; Capacitance: 4.7µF; Rated Voltage (DC): 35V
footprint WCAP-ASNP_D4H5.5
simulation model 865250540003_4.7uF
pins: 1, 2

## 865250543004
designator C?, comment 10µF  (value not drawn)
WCAP-ASNP Aluminum Electrolytic Capacitor, V-Chip, SMT, D6.3 x H5.5mm, 10µF, 35V; Manufacturer Part Number: 865250543004; Manufacturer: Wurth Elektronik; Capacitance Tolerance: +/-20%; Dissipation Factor: 15%; Endurance: 2000h; Leakage Current: 17.5µA; Ripple Current: 29mA; Technical Reference: ASBD055100M035DVCTBB000; Category: Aluminum Electrolytic Capacitors; Match Code: WCAP-ASNP; ComponentLink1Description: Website Link; ComponentLink1URL: https://www.we-online.com/redexpert/article/865250543004?ad; ComponentLink2Description: Datasheet Link; ComponentLink2URL: https://www.we-online.com/redexpert/spec/865250543004?ad; Mount: Surface Mount; Operating Temperature Max: 85°C; Operating Temperature Min: -40°C; Packaging: Tape and Reel; Case/Size Code: D6.3 x H5.5mm; Height: 5.5mm; Diameter: 6.3mm; Capacitance: 10µF; Rated Voltage (DC): 35V
footprint WCAP-ASNP_D6.3H5.5
simulation model 865250543004_10uF
pins: 1, 2

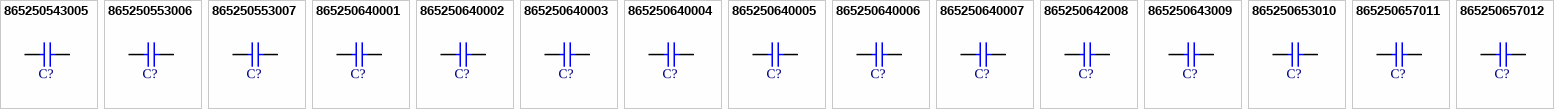
[diagram p1: symbols 865250543005 to 865250657012]

## 865250543005
designator C?, comment 22µF  (value not drawn)
WCAP-ASNP Aluminum Electrolytic Capacitor, V-Chip, SMT, D6.3 x H5.5mm, 22µF, 35V; Manufacturer Part Number: 865250543005; Manufacturer: Wurth Elektronik; Capacitance Tolerance: +/-20%; Dissipation Factor: 15%; Endurance: 2000h; Leakage Current: 38.5µA; Ripple Current: 45mA; Technical Reference: ASBD055220M035DVCTBB000; Category: Aluminum Electrolytic Capacitors; Match Code: WCAP-ASNP; ComponentLink1Description: Website Link; ComponentLink1URL: https://www.we-online.com/redexpert/article/865250543005?ad; ComponentLink2Description: Datasheet Link; ComponentLink2URL: https://www.we-online.com/redexpert/spec/865250543005?ad; Mount: Surface Mount; Operating Temperature Max: 85°C; Operating Temperature Min: -40°C; Packaging: Tape and Reel; Case/Size Code: D6.3 x H5.5mm; Height: 5.5mm; Diameter: 6.3mm; Capacitance: 22µF; Rated Voltage (DC): 35V
footprint WCAP-ASNP_D6.3H5.5
simulation model 865250543005_22uF
pins: 1, 2

## 865250553006
designator C?, comment 33µF  (value not drawn)
WCAP-ASNP Aluminum Electrolytic Capacitor, V-Chip, SMT, D8 x H10.5mm, 33µF, 35V; Manufacturer Part Number: 865250553006; Manufacturer: Wurth Elektronik; Capacitance Tolerance: +/-20%; Dissipation Factor: 15%; Endurance: 2000h; Leakage Current: 57.75µA; Ripple Current: 58mA; Technical Reference: ASBE105330M035DVCTEB000; Category: Aluminum Electrolytic Capacitors; Match Code: WCAP-ASNP; ComponentLink1Description: Website Link; ComponentLink1URL: https://www.we-online.com/redexpert/article/865250553006?ad; ComponentLink2Description: Datasheet Link; ComponentLink2URL: https://www.we-online.com/redexpert/spec/865250553006?ad; Mount: Surface Mount; Operating Temperature Max: 85°C; Operating Temperature Min: -40°C; Packaging: Tape and Reel; Case/Size Code: D8 x H10.5mm; Height: 10.5mm; Diameter: 8mm; Capacitance: 33µF; Rated Voltage (DC): 35V
footprint WCAP-ASNP_D8H10.5
simulation model 865250553006_33uF
pins: 1, 2

## 865250553007
designator C?, comment 47µF  (value not drawn)
WCAP-ASNP Aluminum Electrolytic Capacitor, V-Chip, SMT, D8 x H10.5mm, 47µF, 35V; Manufacturer Part Number: 865250553007; Manufacturer: Wurth Elektronik; Capacitance Tolerance: +/-20%; Dissipation Factor: 15%; Endurance: 2000h; Leakage Current: 82.25µA; Ripple Current: 64mA; Technical Reference: ASBE105470M035DVCTEB000; Category: Aluminum Electrolytic Capacitors; Match Code: WCAP-ASNP; ComponentLink1Description: Website Link; ComponentLink1URL: https://www.we-online.com/redexpert/article/865250553007?ad; ComponentLink2Description: Datasheet Link; ComponentLink2URL: https://www.we-online.com/redexpert/spec/865250553007?ad; Mount: Surface Mount; Operating Temperature Max: 85°C; Operating Temperature Min: -40°C; Packaging: Tape and Reel; Case/Size Code: D8 x H10.5mm; Height: 10.5mm; Diameter: 8mm; Capacitance: 47µF; Rated Voltage (DC): 35V
footprint WCAP-ASNP_D8H10.5
simulation model 865250553007_47uF
pins: 1, 2

## 865250640001
designator C?, comment 0.1µF  (value not drawn)
WCAP-ASNP Aluminum Electrolytic Capacitor, V-Chip, SMT, D4 x H5.5mm, 0.1µF, 50V; Manufacturer Part Number: 865250640001; Manufacturer: Wurth Elektronik; Capacitance Tolerance: +/-20%; Dissipation Factor: 15%; Endurance: 2000h; Leakage Current: 10µA; Ripple Current: 1mA; Technical Reference: ASBB055R10M050DVCTAB000; Category: Aluminum Electrolytic Capacitors; Match Code: WCAP-ASNP; ComponentLink1Description: Website Link; ComponentLink1URL: https://www.we-online.com/redexpert/article/865250640001?ad; ComponentLink2Description: Datasheet Link; ComponentLink2URL: https://www.we-online.com/redexpert/spec/865250640001?ad; Mount: Surface Mount; Operating Temperature Max: 85°C; Operating Temperature Min: -40°C; Packaging: Tape and Reel; Case/Size Code: D4 x H5.5mm; Height: 5.5mm; Diameter: 4mm; Capacitance: 0.1µF; Rated Voltage (DC): 50V
footprint WCAP-ASNP_D4H5.5
simulation model 865250640001_100nF
pins: 1, 2

## 865250640002
designator C?, comment 0.22µF  (value not drawn)
WCAP-ASNP Aluminum Electrolytic Capacitor, V-Chip, SMT, D4 x H5.5mm, 0.22µF, 50V; Manufacturer Part Number: 865250640002; Manufacturer: Wurth Elektronik; Capacitance Tolerance: +/-20%; Dissipation Factor: 15%; Endurance: 2000h; Leakage Current: 10µA; Ripple Current: 2mA; Technical Reference: ASBB055R22M050DVCTAB000; Category: Aluminum Electrolytic Capacitors; Match Code: WCAP-ASNP; ComponentLink1Description: Website Link; ComponentLink1URL: https://www.we-online.com/redexpert/article/865250640002?ad; ComponentLink2Description: Datasheet Link; ComponentLink2URL: https://www.we-online.com/redexpert/spec/865250640002?ad; Mount: Surface Mount; Operating Temperature Max: 85°C; Operating Temperature Min: -40°C; Packaging: Tape and Reel; Case/Size Code: D4 x H5.5mm; Height: 5.5mm; Diameter: 4mm; Capacitance: 0.22µF; Rated Voltage (DC): 50V
footprint WCAP-ASNP_D4H5.5
simulation model 865250640002_220nF
pins: 1, 2

## 865250640003
designator C?, comment 0.33µF  (value not drawn)
WCAP-ASNP Aluminum Electrolytic Capacitor, V-Chip, SMT, D4 x H5.5mm, 0.33µF, 50V; Manufacturer Part Number: 865250640003; Manufacturer: Wurth Elektronik; Capacitance Tolerance: +/-20%; Dissipation Factor: 15%; Endurance: 2000h; Leakage Current: 10µA; Ripple Current: 2.8mA; Technical Reference: ASBB055R33M050DVCTAB000; Category: Aluminum Electrolytic Capacitors; Match Code: WCAP-ASNP; ComponentLink1Description: Website Link; ComponentLink1URL: https://www.we-online.com/redexpert/article/865250640003?ad; ComponentLink2Description: Datasheet Link; ComponentLink2URL: https://www.we-online.com/redexpert/spec/865250640003?ad; Mount: Surface Mount; Operating Temperature Max: 85°C; Operating Temperature Min: -40°C; Packaging: Tape and Reel; Case/Size Code: D4 x H5.5mm; Height: 5.5mm; Diameter: 4mm; Capacitance: 0.33µF; Rated Voltage (DC): 50V
footprint WCAP-ASNP_D4H5.5
simulation model 865250640003_330nF
pins: 1, 2

## 865250640004
designator C?, comment 0.47µF  (value not drawn)
WCAP-ASNP Aluminum Electrolytic Capacitor, V-Chip, SMT, D4 x H5.5mm, 0.47µF, 50V; Manufacturer Part Number: 865250640004; Manufacturer: Wurth Elektronik; Capacitance Tolerance: +/-20%; Dissipation Factor: 15%; Endurance: 2000h; Leakage Current: 10µA; Ripple Current: 4mA; Technical Reference: ASBB055R47M050DVCTAB000; Category: Aluminum Electrolytic Capacitors; Match Code: WCAP-ASNP; ComponentLink1Description: Website Link; ComponentLink1URL: https://www.we-online.com/redexpert/article/865250640004?ad; ComponentLink2Description: Datasheet Link; ComponentLink2URL: https://www.we-online.com/redexpert/spec/865250640004?ad; Mount: Surface Mount; Operating Temperature Max: 85°C; Operating Temperature Min: -40°C; Packaging: Tape and Reel; Case/Size Code: D4 x H5.5mm; Height: 5.5mm; Diameter: 4mm; Capacitance: 0.47µF; Rated Voltage (DC): 50V
footprint WCAP-ASNP_D4H5.5
simulation model 865250640004_470nF
pins: 1, 2

## 865250640005
designator C?, comment 1µF  (value not drawn)
WCAP-ASNP Aluminum Electrolytic Capacitor, V-Chip, SMT, D4 x H5.5mm, 1µF, 50V; Manufacturer Part Number: 865250640005; Manufacturer: Wurth Elektronik; Capacitance Tolerance: +/-20%; Dissipation Factor: 15%; Endurance: 2000h; Leakage Current: 10µA; Ripple Current: 8.4mA; Technical Reference: ASBB055010M050DVCTAB000; Category: Aluminum Electrolytic Capacitors; Match Code: WCAP-ASNP; ComponentLink1Description: Website Link; ComponentLink1URL: https://www.we-online.com/redexpert/article/865250640005?ad; ComponentLink2Description: Datasheet Link; ComponentLink2URL: https://www.we-online.com/redexpert/spec/865250640005?ad; Mount: Surface Mount; Operating Temperature Max: 85°C; Operating Temperature Min: -40°C; Packaging: Tape and Reel; Case/Size Code: D4 x H5.5mm; Height: 5.5mm; Diameter: 4mm; Capacitance: 1µF; Rated Voltage (DC): 50V
footprint WCAP-ASNP_D4H5.5
simulation model 865250640005_1uF
pins: 1, 2

## 865250640006
designator C?, comment 2.2µF  (value not drawn)
WCAP-ASNP Aluminum Electrolytic Capacitor, V-Chip, SMT, D4 x H5.5mm, 2.2µF, 50V; Manufacturer Part Number: 865250640006; Manufacturer: Wurth Elektronik; Capacitance Tolerance: +/-20%; Dissipation Factor: 15%; Endurance: 2000h; Leakage Current: 10µA; Ripple Current: 13mA; Technical Reference: ASBB0552R2M050DVCTAB000; Category: Aluminum Electrolytic Capacitors; Match Code: WCAP-ASNP; ComponentLink1Description: Website Link; ComponentLink1URL: https://www.we-online.com/redexpert/article/865250640006?ad; ComponentLink2Description: Datasheet Link; ComponentLink2URL: https://www.we-online.com/redexpert/spec/865250640006?ad; Mount: Surface Mount; Operating Temperature Max: 85°C; Operating Temperature Min: -40°C; Packaging: Tape and Reel; Case/Size Code: D4 x H5.5mm; Height: 5.5mm; Diameter: 4mm; Capacitance: 2.2µF; Rated Voltage (DC): 50V
footprint WCAP-ASNP_D4H5.5
simulation model 865250640006_2.2uF
pins: 1, 2

## 865250640007
designator C?, comment 3.3µF  (value not drawn)
WCAP-ASNP Aluminum Electrolytic Capacitor, V-Chip, SMT, D4 x H5.5mm, 3.3µF, 50V; Manufacturer Part Number: 865250640007; Manufacturer: Wurth Elektronik; Capacitance Tolerance: +/-20%; Dissipation Factor: 15%; Endurance: 2000h; Leakage Current: 10µA; Ripple Current: 17mA; Technical Reference: ASBB0553R3M050DVCTAB000; Category: Aluminum Electrolytic Capacitors; Match Code: WCAP-ASNP; ComponentLink1Description: Website Link; ComponentLink1URL: https://www.we-online.com/redexpert/article/865250640007?ad; ComponentLink2Description: Datasheet Link; ComponentLink2URL: https://www.we-online.com/redexpert/spec/865250640007?ad; Mount: Surface Mount; Operating Temperature Max: 85°C; Operating Temperature Min: -40°C; Packaging: Tape and Reel; Case/Size Code: D4 x H5.5mm; Height: 5.5mm; Diameter: 4mm; Capacitance: 3.3µF; Rated Voltage (DC): 50V
footprint WCAP-ASNP_D4H5.5
simulation model 865250640007_3.3uF
pins: 1, 2